# Altium schematic symbol library WCAP-CSGP_0402_NP0.SchLib: 1 symbol
Pins are listed as number, name and electrical type; pins without a type are passive.

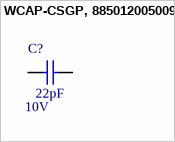
[diagram p0: symbol WCAP-CSGP, 885012005009]

## WCAP-CSGP, 885012005009
designator C?, comment 22pF  RatedVoltage: 10V
CAP CER 22PF 10V NP0 0402; Manufacturer: Wurth Elektronik; Manufacturer Part Number: 885012005009; PublishedDate: Aug 2016; ComponentLink1Description: Manufacturer; ComponentLink1URL: http://www.we-online.de; ComponentLink2Description: Datasheet; ComponentLink2URL: http://katalog.we-online.com/pbs/datasheet/885012005009.pdf; Value: 22pF; Size: 0402; CeramicType: NP0
footprint WCAP-CSGP_0402, 1x0.5x0.5
pins: 1, 2